# EAGLE library part MBED_NXP_LPC1768 (library Pick_up)
Mbed LPC1768 - ARM CORTEX v2.1 * Schematic symbol is now placed in eagles's default raster. *The pads diameter are suitable for routing between mbed pins * mbed pads are 0.8 mm drill diameter. --------------------------------------------- Created by: Mohamed Yousry *Alexandria, Egypt *Email: mohamed.yousry@ieeegoldegypt.org
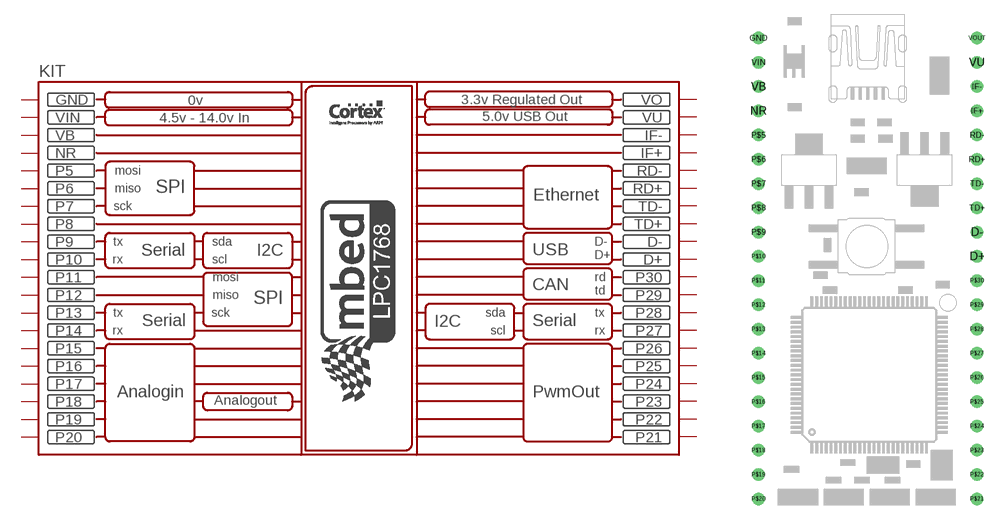
[diagram p0: symbol with the pads of MBED-KIT; footprint MBED-KIT]

Designator prefix KIT

## MBED_NXP_LPC1768  [MBED-KIT]
D+  D+
D-  D-
GND  GND  pwr
IF+  IF+
IF-  IF-
NR  NR  pwr
P$5  P5
P$6  P6
P$7  P7
P$8  P8
P$9  P9
P$10  P10
P$11  P11
P$12  P12
P$13  P13
P$14  P14
P$15  P15
P$16  P16
P$17  P17
P$18  P18
P$19  P19
P$20  P20
P$21  P21
P$22  P22
P$23  P23
P$24  P24
P$25  P25
P$26  P26
P$27  P27
P$28  P28
P$29  P29
P$30  P30
RD+  RD+
RD-  RD-
TD+  TD+
TD-  TD-
VB  VB  pwr
VIN  VIN  pwr
VOUT  VO  pwr
VU  VU  pwr

## Footprint MBED-KIT (pad centres in mm)
drill 0.8: D+ 22.86,-2.54; D- 22.86,0; GND 0,20.32; IF+ 22.86,12.7; IF- 22.86,15.24; NR 0,12.7; P$5 0,10.16; P$6 0,7.62; P$7 0,5.08; P$8 0,2.54; P$9 0,0; P$10 0,-2.54; P$11 0,-5.08; P$12 0,-7.62; P$13 0,-10.16; P$14 0,-12.7; P$15 0,-15.24; P$16 0,-17.78; P$17 0,-20.32; P$18 0,-22.86; P$19 0,-25.4; P$20 0,-27.94; P$21 22.86,-27.94; P$22 22.86,-25.4; P$23 22.86,-22.86; P$24 22.86,-20.32; P$25 22.86,-17.78; P$26 22.86,-15.24; P$27 22.86,-12.7; P$28 22.86,-10.16; P$29 22.86,-7.62; P$30 22.86,-5.08; RD+ 22.86,7.62; RD- 22.86,10.16; TD+ 22.86,2.54; TD- 22.86,5.08; VB 0,15.24; VIN 0,17.78; VOUT 22.86,20.32; VU 22.86,17.78